# Altium schematic symbol library CHK-I.SchLib: 14 symbols
Pins are listed as number, name and electrical type; pins without a type are passive.

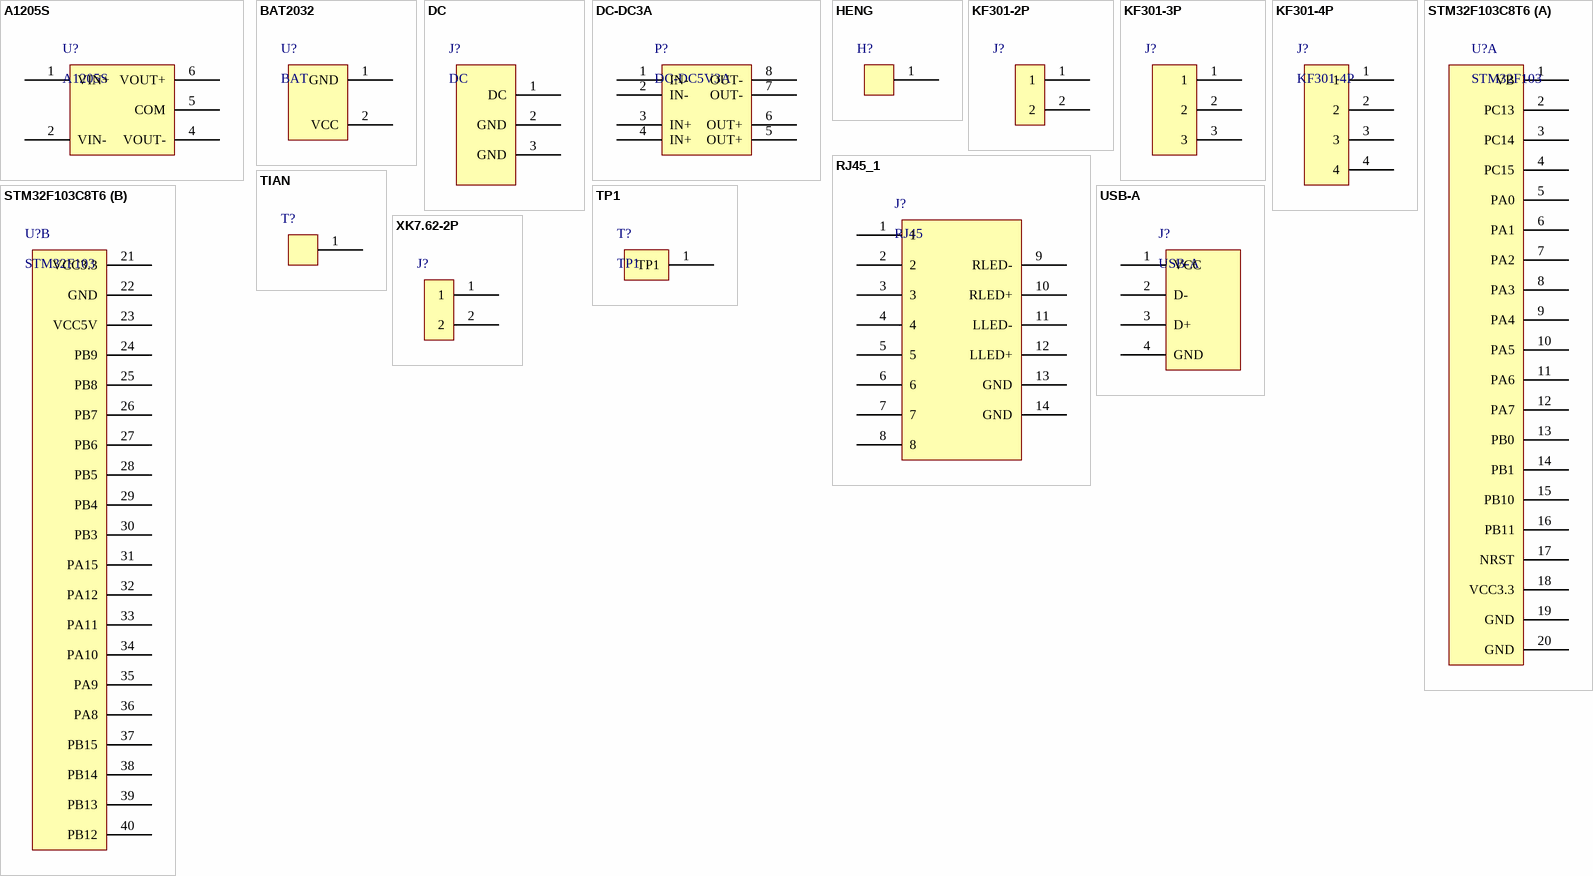
[diagram p0: symbols A1205S to XK7.62-2P]

## A1205S
designator U?
footprint A1205S
pins: 1 VIN+, 2 VIN-, 4 VOUT-, 5 COM, 6 VOUT+

## BAT2032
designator U?, comment BAT
footprint BAT2032
pins: 1 GND, 2 VCC

## DC
designator J?
Connector for DC 12V
footprint DC005
pins: 1 DC, 2 GND, 3 GND

## DC-DC3A
designator P?, comment DC-DC5V3A
footprint DC-DC3A (DC-DC5V3Amodule)
pins: 1 IN-, 2 IN-, 3 IN+, 4 IN+, 5 OUT+, 6 OUT+, 7 OUT-, 8 OUT-

## HENG
designator H?, comment HENG 8X2  (value not drawn)
footprint HENG 8X2 (8 X 2 HENG)
pins: 1 HENG

## KF301-2P
designator J?  (value not drawn)
footprint KF301-2P
pins: 1, 2

## KF301-3P
designator J?  (value not drawn)
footprint KF301-3P
pins: 1, 2, 3

## KF301-4P
designator J?
footprint KF301-4P
pins: 1, 2, 3, 4

## RJ45_1
designator J?, comment RJ45
footprint RJ45_1
pins: 1, 2, 3, 4, 5, 6, 7, 8, 9 RLED-, 10 RLED+, 11 LLED-, 12 LLED+, 13 GND, 14 GND

## STM32F103C8T6
designator U?, comment STM32F103
footprint STM32F103C8T6
part A pins: 1 VB, 2 PC13, 3 PC14, 4 PC15, 5 PA0, 6 PA1, 7 PA2, 8 PA3, 9 PA4, 10 PA5, 11 PA6, 12 PA7, 13 PB0, 14 PB1, 15 PB10, 16 PB11, 17 NRST, 18 VCC3.3, 19 GND, 20 GND
part B pins: 21 VCC3.3, 22 GND, 23 VCC5V, 24 PB9, 25 PB8, 26 PB7, 27 PB6, 28 PB5, 29 PB4, 30 PB3, 31 PA15, 32 PA12, 33 PA11, 34 PA10, 35 PA9, 36 PA8, 37 PB15, 38 PB14, 39 PB13, 40 PB12

## TIAN
designator T?  (value not drawn)
footprint TIAN 3X3 (3 X 3 TIAN)
pins: 1 TIAN

## TP1
designator T?
footprint TP1 (Test Point 1)
pins: 1 TP1

## USB-A
designator J?
USB-A female
footprint USB-A
pins: 1 VCC, 2 D-, 3 D+, 4 GND

## XK7.62-2P
designator J?  (value not drawn)
footprint XK7.62-2P
pins: 1, 2